# Altium footprint library Misc Connector DSubminiature.PcbLib: 2 footprints
Each footprint in its own frame and in the unit in brackets; x right, y up, seen from the top. Pads: shape width x height; smd on the part's side, far side on the other; paste and mask are expansions set on the pad; w line width, h text height; cw(c..) or ccw(c..) is an arc to the next point about the centre after c.
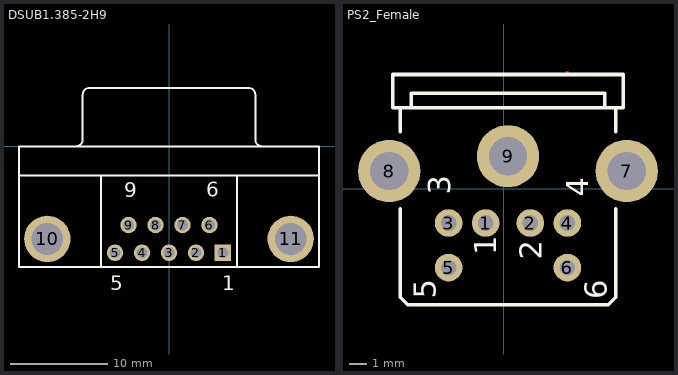
[diagram p0: the footprints below, top view; thin cyan lines are the x and y axes]

## DSUB1.385-2H9 [mm] "Connector; D Subminiature; 9 Position; Right Angle; Pitch 1.385 mm"
height 12.75
pads (11):
  rect 1.69x1.69 hole 1.09: 1(5.54,-10.92)
  round 1.69 hole 1.09: 2(2.77,-10.92) 3(0,-10.92) 4(-2.77,-10.92) 5(-5.54,-10.92) 6(4.155,-8.08) 7(1.385,-8.08) 8(-1.385,-8.08) 9(-4.155,-8.08)
  round 4.76 hole 3.26: 10(-12.495,-9.5) 11(12.495,-9.5)
Top Overlay:
  lines w0.2: -15.4,-3 15.4,-3 ; -9.56,0.005 ccw(c-9.56,0.7) -8.865,0.7 -8.865,5.3 ; -8.86,5.305 cw(c-8.165,5.305) -8.165,6 8.165,6 cw(c8.165,5.305) 8.86,5.305 ; -7,-12.4 -7,-3 ; 7,-12.4 7,-3 ; 8.865,5.3 8.865,0.7 ccw(c9.56,0.7) 9.56,0.005 ; -15.4,-12.4 15.4,-12.4 15.4,0 -15.4,0 -15.4,-12.4
  text "6" at 3.835,-5.156 h1.5
  text "9" at -4.572,-5.207 h1.5
  text "5" at -6.045,-14.757 h1.5
  text "1" at 5.461,-14.757 h1.5

## PS2_Female [mil] "PS2键盘接口（母头）"
pads (9):
  round 62 hole 35: 1(-41,-77) 2(59,-77) 3(-124.33,-77) 4(142.33,-77) 5(-124.33,-177) 6(142.33,-177)
  round 140 hole 86: 7(275.67,39.67) 8(-257.67,39.67) 9(9,73)
Top Layer:
  lines w10: 142,259 142.33,258.67
Bottom Layer:
  lines w10: 141.33,-178 142.33,-177
Top Overlay:
  lines w8: -232.67,-45.5 -232.67,-243.67 -216,-260.33 234,-260.33 250.67,-243.67 250.67,-45.5 ; -232.67,127.72 -232.67,181.33 ; 250.67,127.72 250.67,181.33 ; -207.67,181.33 -207.67,214.67 225.67,214.67 225.67,181.33 ; -207.67,181.33 -249.33,181.33 -249.33,256.33 267.33,256.33 267.33,181.33 225.67,181.33 ; -207.67,181.33 225.67,181.33
  text "2" at 85,-160 h50
  text "5" at -153.57,-246.43 h50
  text "6" at 230.43,-247.76 h50
  text "4" at 189.1,-18.43 h50
  text "3" at -120.23,-13.1 h50
  text "1" at -17.57,-149.1 h50